# Altium schematic symbol library L7806.SchLib: 1 symbol
Pins are listed as number, name and electrical type; pins without a type are passive.

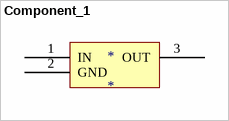
[diagram p0: symbol Component_1]

## Component_1
designator *
footprint L7806
pins: 1 IN, 2 GND, 3 OUT